# Altium integrated library TI Amplifiers and Linear Special Function Amplifier.IntLib: 708 symbols (part 28 of 47)
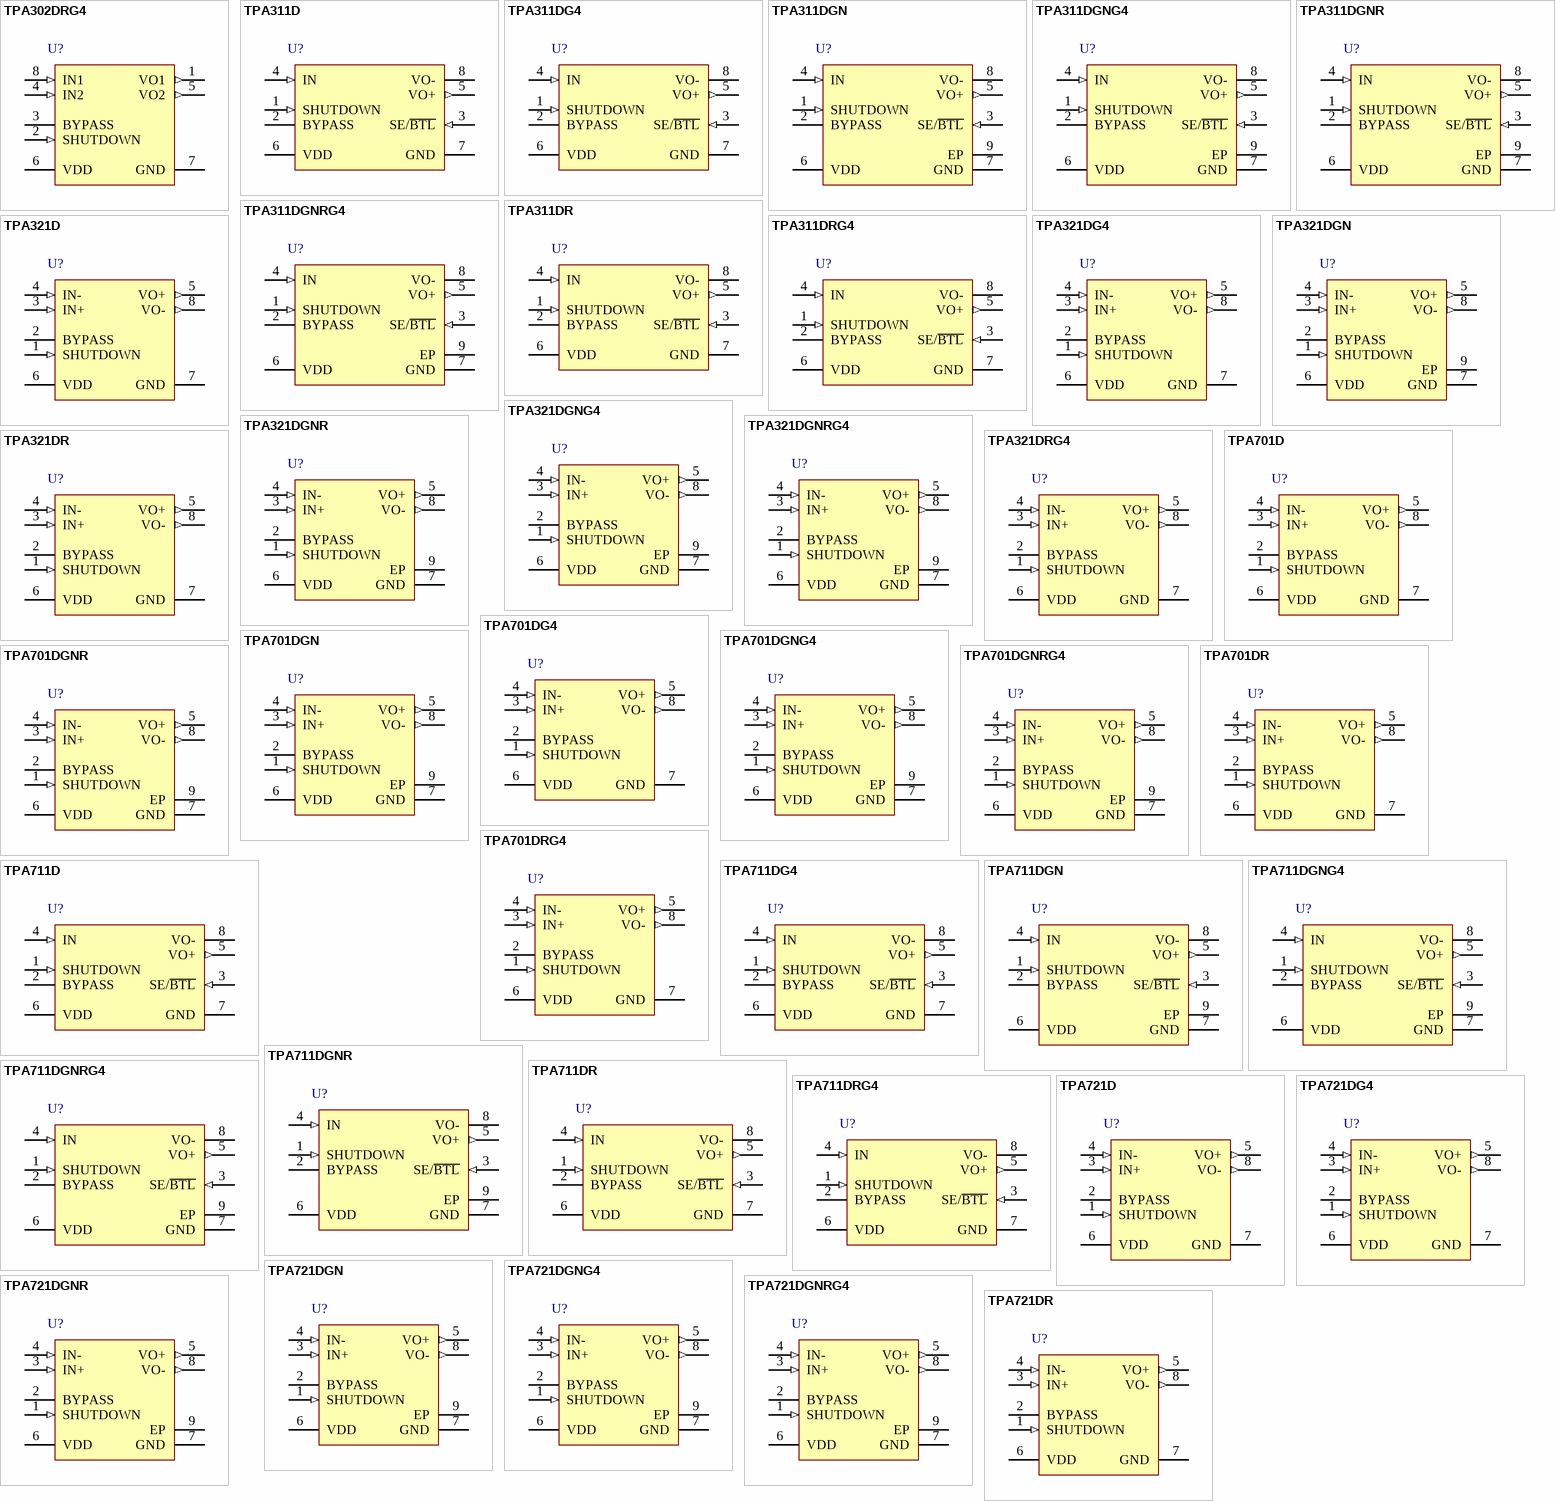
[diagram p66: symbols TPA302DRG4 to TPA721DR]

## TPA701DG4
designator U?
700-mW Mono, Class-AB Audio Amplifier, -40 to 85 degC, 8-pin SOIC (D8), Green (RoHS & no Sb/Br); Manufacturer: Texas Instruments; PartNumber: TPA701DG4; Output Power(W): 0.25; PSRR(dB): 85; SubFamily: Dynamic Speaker; Supply Max(Max)(Volt): 5.5; Supply Min(Min)(Volt): 2.5; DatasheetVersion: SLOS229D; PackageVersion: 4040047-3/M, 06/2011; PackageReference: D8; PackageDescription: 8-Pin Plastic Small Outline, Body 4.9 x 3.9 mm, Pitch 1.27 mm; Supplier 1: Digi-Key; Supplier Part Number 1: TPA701DG4-ND; Supplier 2: Mouser; Supplier Part Number 2: 595-TPA701DG4; Eco-Plan: Green (RoHS & no Sb/Br); Speaker Amp Type: Class-AB; Speaker Channels: Mono; Mounting Technology: Surface Mount; Code_JEDEC: MS-012; ComponentLink1Description: Manufacturer URL; ComponentLink1URL: http://www.ti.com/; ComponentLink2Description: Datasheet; ComponentLink2URL: http://www.ti.com/general/docs/lit/getliterature.tsp?genericPartNumber=TPA701&fileType=pdf; ComponentLink3Description: Package Specification; ComponentLink3URL: http://www.ti.com/litv/pdf/msoi002j
footprint TI-D8_N (SOIC, 8-Leads, Body 5x4mm, Pitch 1.27mm, IPC Medium Density)
footprint TI-D8_L (SOIC, 8-Leads, Body 5x4mm, Pitch 1.27mm, IPC High Density)
footprint TI-D8_M (SOIC, 8-Leads, Body 5x4mm, Pitch 1.27mm, IPC Low Density)
pins: 1 SHUTDOWN (in) "SHUTDOWN places the entire device in shutdown mode when held high.", 2 BYPASS "BYPASS is the tap to the voltage divider for internal mid-supply bias. This terminal should be connected to a 0.1-uF to 2.2-uF capacitor when used as an audio amplifier.", 3 IN+ (in) "IN+ is the noninverting input. IN+ is typically tied to the BYPASS terminal.", 4 IN- (in) "IN- is the inverting input. IN- is typically used as the audio input terminal.", 5 VO+ (out) "VO+ is the positive BTL output.", 6 VDD (power) "VDD is the supply voltage terminal.", 7 GND (power) "GND is the ground connection.", 8 VO- (out) "VO- is the negative BTL output."

## TPA701DGN
designator U?
700-mW Mono, Class-AB Audio Amplifier, -40 to 85 degC, 8-pin SOP (DGN8), Green (RoHS & no Sb/Br); Manufacturer: Texas Instruments; PartNumber: TPA701DGN; Output Power(W): 0.25; PSRR(dB): 85; SubFamily: Dynamic Speaker; Supply Max(Max)(Volt): 5.5; Supply Min(Min)(Volt): 2.5; DatasheetVersion: SLOS229D; PackageVersion: 4073271/F, 05/2011; PackageReference: DGN8-1760X1425TP; PackageDescription: 8-Pin Plastic Small Outline, Body 3 x 3 mm, Pitch 0.65 mm; Supplier 1: Digi-Key; Supplier Part Number 1: 296-7022-5-ND; Supplier 2: Newark; Supplier Part Number 2: 76C9855; Supplier 3: Mouser; Supplier Part Number 3: 595-TPA701DGN; Eco-Plan: Green (RoHS & no Sb/Br); Speaker Amp Type: Class-AB; Speaker Channels: Mono; Mounting Technology: Surface Mount; Code_JEDEC: MO-187; ComponentLink1Description: Manufacturer URL; ComponentLink1URL: http://www.ti.com/; ComponentLink2Description: Datasheet; ComponentLink2URL: http://www.ti.com/general/docs/lit/getliterature.tsp?genericPartNumber=TPA701&fileType=pdf; ComponentLink3Description: Package Specification; ComponentLink3URL: http://www.ti.com/litv/pdf/mpds046e
footprint TI-DGN8-1760X1425TP_N (SOP, 8-Leads, Body 3.1x3.1mm, Pitch 0.65mm, Thermal Pad 1.89x1.57mm, IPC Medium Density)
footprint TI-DGN8-1760X1425TP_L (SOP, 8-Leads, Body 3.1x3.1mm, Pitch 0.65mm, Thermal Pad 1.89x1.57mm, IPC High Density)
footprint TI-DGN8-1760X1425TP_M (SOP, 8-Leads, Body 3.1x3.1mm, Pitch 0.65mm, Thermal Pad 1.89x1.57mm, IPC Low Density)
pins: 1 SHUTDOWN (in) "SHUTDOWN places the entire device in shutdown mode when held high.", 2 BYPASS "BYPASS is the tap to the voltage divider for internal mid-supply bias.", 3 IN+ (in) "IN+ is the noninverting input. IN+ is typically tied to the BYPASS terminal.", 4 IN- (in) "IN- is the inverting input. IN- is typically used as the audio input terminal.", 5 VO+ (out) "VO+ is the positive BTL output.", 6 VDD (power) "VDD is the supply voltage terminal.", 7 GND (power) "GND is the ground connection.", 8 VO- (out) "VO- is the negative BTL output.", 9 EP

## TPA701DGNG4
designator U?
700-mW Mono, Class-AB Audio Amplifier, -40 to 85 degC, 8-pin SOP (DGN8), Green (RoHS & no Sb/Br); Manufacturer: Texas Instruments; PartNumber: TPA701DGNG4; Output Power(W): 0.25; PSRR(dB): 85; SubFamily: Dynamic Speaker; Supply Max(Max)(Volt): 5.5; Supply Min(Min)(Volt): 2.5; DatasheetVersion: SLOS229D; PackageVersion: 4073271/F, 05/2011; PackageReference: DGN8-1760X1425TP; PackageDescription: 8-Pin Plastic Small Outline, Body 3 x 3 mm, Pitch 0.65 mm; Supplier 1: Digi-Key; Supplier Part Number 1: TPA701DGNG4-ND; Supplier 2: Newark; Supplier Part Number 2: 54K1509; Supplier 3: Mouser; Supplier Part Number 3: 595-TPA701DGNG4; Eco-Plan: Green (RoHS & no Sb/Br); Speaker Amp Type: Class-AB; Speaker Channels: Mono; Mounting Technology: Surface Mount; Code_JEDEC: MO-187; ComponentLink1Description: Manufacturer URL; ComponentLink1URL: http://www.ti.com/; ComponentLink2Description: Datasheet; ComponentLink2URL: http://www.ti.com/general/docs/lit/getliterature.tsp?genericPartNumber=TPA701&fileType=pdf; ComponentLink3Description: Package Specification; ComponentLink3URL: http://www.ti.com/litv/pdf/mpds046e
footprint TI-DGN8-1760X1425TP_N (SOP, 8-Leads, Body 3.1x3.1mm, Pitch 0.65mm, Thermal Pad 1.89x1.57mm, IPC Medium Density)
footprint TI-DGN8-1760X1425TP_L (SOP, 8-Leads, Body 3.1x3.1mm, Pitch 0.65mm, Thermal Pad 1.89x1.57mm, IPC High Density)
footprint TI-DGN8-1760X1425TP_M (SOP, 8-Leads, Body 3.1x3.1mm, Pitch 0.65mm, Thermal Pad 1.89x1.57mm, IPC Low Density)
pins: 1 SHUTDOWN (in) "SHUTDOWN places the entire device in shutdown mode when held high.", 2 BYPASS "BYPASS is the tap to the voltage divider for internal mid-supply bias.", 3 IN+ (in) "IN+ is the noninverting input. IN+ is typically tied to the BYPASS terminal.", 4 IN- (in) "IN- is the inverting input. IN- is typically used as the audio input terminal.", 5 VO+ (out) "VO+ is the positive BTL output.", 6 VDD (power) "VDD is the supply voltage terminal.", 7 GND (power) "GND is the ground connection.", 8 VO- (out) "VO- is the negative BTL output.", 9 EP

## TPA701DGNR
designator U?
700-mW Mono, Class-AB Audio Amplifier, -40 to 85 degC, 8-pin SOP (DGN8), Green (RoHS & no Sb/Br); Manufacturer: Texas Instruments; PartNumber: TPA701DGNR; Output Power(W): 0.25; PSRR(dB): 85; SubFamily: Dynamic Speaker; Supply Max(Max)(Volt): 5.5; Supply Min(Min)(Volt): 2.5; DatasheetVersion: SLOS229D; PackageVersion: 4073271/F, 05/2011; PackageReference: DGN8-1760X1425TP; PackageDescription: 8-Pin Plastic Small Outline, Body 3 x 3 mm, Pitch 0.65 mm; Supplier 1: Digi-Key; Supplier Part Number 1: 296-7022-2-ND; Supplier 2: Digi-Key; Supplier Part Number 2: 296-7022-1-ND; Supplier 3: Digi-Key; Supplier Part Number 3: 296-7022-6-ND; Supplier 4: Newark; Supplier Part Number 4: 76C9856; Supplier 5: Mouser; Supplier Part Number 5: 595-TPA701DGNR; Eco-Plan: Green (RoHS & no Sb/Br); Speaker Amp Type: Class-AB; Speaker Channels: Mono; Mounting Technology: Surface Mount; Code_JEDEC: MO-187; ComponentLink1Description: Manufacturer URL; ComponentLink1URL: http://www.ti.com/; ComponentLink2Description: Datasheet; ComponentLink2URL: http://www.ti.com/general/docs/lit/getliterature.tsp?genericPartNumber=TPA701&fileType=pdf; ComponentLink3Description: Package Specification; ComponentLink3URL: http://www.ti.com/litv/pdf/mpds046e
footprint TI-DGN8-1760X1425TP_N (SOP, 8-Leads, Body 3.1x3.1mm, Pitch 0.65mm, Thermal Pad 1.89x1.57mm, IPC Medium Density)
footprint TI-DGN8-1760X1425TP_L (SOP, 8-Leads, Body 3.1x3.1mm, Pitch 0.65mm, Thermal Pad 1.89x1.57mm, IPC High Density)
footprint TI-DGN8-1760X1425TP_M (SOP, 8-Leads, Body 3.1x3.1mm, Pitch 0.65mm, Thermal Pad 1.89x1.57mm, IPC Low Density)
pins: 1 SHUTDOWN (in) "SHUTDOWN places the entire device in shutdown mode when held high.", 2 BYPASS "BYPASS is the tap to the voltage divider for internal mid-supply bias.", 3 IN+ (in) "IN+ is the noninverting input. IN+ is typically tied to the BYPASS terminal.", 4 IN- (in) "IN- is the inverting input. IN- is typically used as the audio input terminal.", 5 VO+ (out) "VO+ is the positive BTL output.", 6 VDD (power) "VDD is the supply voltage terminal.", 7 GND (power) "GND is the ground connection.", 8 VO- (out) "VO- is the negative BTL output.", 9 EP

## TPA701DGNRG4
designator U?
700-mW Mono, Class-AB Audio Amplifier, -40 to 85 degC, 8-pin SOP (DGN8), Green (RoHS & no Sb/Br); Manufacturer: Texas Instruments; PartNumber: TPA701DGNRG4; Output Power(W): 0.25; PSRR(dB): 85; SubFamily: Dynamic Speaker; Supply Max(Max)(Volt): 5.5; Supply Min(Min)(Volt): 2.5; DatasheetVersion: SLOS229D; PackageVersion: 4073271/F, 05/2011; PackageReference: DGN8-1760X1425TP; PackageDescription: 8-Pin Plastic Small Outline, Body 3 x 3 mm, Pitch 0.65 mm; Supplier 1: Digi-Key; Supplier Part Number 1: TPA701DGNRG4-ND; Supplier 2: Newark; Supplier Part Number 2: 58K6881; Supplier 3: Mouser; Supplier Part Number 3: 595-TPA701DGNRG4; Eco-Plan: Green (RoHS & no Sb/Br); Speaker Amp Type: Class-AB; Speaker Channels: Mono; Mounting Technology: Surface Mount; Code_JEDEC: MO-187; ComponentLink1Description: Manufacturer URL; ComponentLink1URL: http://www.ti.com/; ComponentLink2Description: Datasheet; ComponentLink2URL: http://www.ti.com/general/docs/lit/getliterature.tsp?genericPartNumber=TPA701&fileType=pdf; ComponentLink3Description: Package Specification; ComponentLink3URL: http://www.ti.com/litv/pdf/mpds046e
footprint TI-DGN8-1760X1425TP_N (SOP, 8-Leads, Body 3.1x3.1mm, Pitch 0.65mm, Thermal Pad 1.89x1.57mm, IPC Medium Density)
footprint TI-DGN8-1760X1425TP_L (SOP, 8-Leads, Body 3.1x3.1mm, Pitch 0.65mm, Thermal Pad 1.89x1.57mm, IPC High Density)
footprint TI-DGN8-1760X1425TP_M (SOP, 8-Leads, Body 3.1x3.1mm, Pitch 0.65mm, Thermal Pad 1.89x1.57mm, IPC Low Density)
pins: 1 SHUTDOWN (in) "SHUTDOWN places the entire device in shutdown mode when held high.", 2 BYPASS "BYPASS is the tap to the voltage divider for internal mid-supply bias.", 3 IN+ (in) "IN+ is the noninverting input. IN+ is typically tied to the BYPASS terminal.", 4 IN- (in) "IN- is the inverting input. IN- is typically used as the audio input terminal.", 5 VO+ (out) "VO+ is the positive BTL output.", 6 VDD (power) "VDD is the supply voltage terminal.", 7 GND (power) "GND is the ground connection.", 8 VO- (out) "VO- is the negative BTL output.", 9 EP

## TPA701DR
designator U?
700-mW Mono, Class-AB Audio Amplifier, -40 to 85 degC, 8-pin SOIC (D8), Green (RoHS & no Sb/Br); Manufacturer: Texas Instruments; PartNumber: TPA701DR; Output Power(W): 0.25; PSRR(dB): 85; SubFamily: Dynamic Speaker; Supply Max(Max)(Volt): 5.5; Supply Min(Min)(Volt): 2.5; DatasheetVersion: SLOS229D; PackageVersion: 4040047-3/M, 06/2011; PackageReference: D8; PackageDescription: 8-Pin Plastic Small Outline, Body 4.9 x 3.9 mm, Pitch 1.27 mm; Supplier 1: Digi-Key; Supplier Part Number 1: 296-1949-2-ND; Supplier 2: Digi-Key; Supplier Part Number 2: 296-1949-1-ND; Supplier 3: Digi-Key; Supplier Part Number 3: 296-1949-6-ND; Supplier 4: Newark; Supplier Part Number 4: 76C9857; Supplier 5: Mouser; Supplier Part Number 5: 595-TPA701DR; Eco-Plan: Green (RoHS & no Sb/Br); Speaker Amp Type: Class-AB; Speaker Channels: Mono; Mounting Technology: Surface Mount; Code_JEDEC: MS-012; ComponentLink1Description: Manufacturer URL; ComponentLink1URL: http://www.ti.com/; ComponentLink2Description: Datasheet; ComponentLink2URL: http://www.ti.com/general/docs/lit/getliterature.tsp?genericPartNumber=TPA701&fileType=pdf; ComponentLink3Description: Package Specification; ComponentLink3URL: http://www.ti.com/litv/pdf/msoi002j
footprint TI-D8_N (SOIC, 8-Leads, Body 5x4mm, Pitch 1.27mm, IPC Medium Density)
footprint TI-D8_L (SOIC, 8-Leads, Body 5x4mm, Pitch 1.27mm, IPC High Density)
footprint TI-D8_M (SOIC, 8-Leads, Body 5x4mm, Pitch 1.27mm, IPC Low Density)
pins: 1 SHUTDOWN (in) "SHUTDOWN places the entire device in shutdown mode when held high.", 2 BYPASS "BYPASS is the tap to the voltage divider for internal mid-supply bias. This terminal should be connected to a 0.1-uF to 2.2-uF capacitor when used as an audio amplifier.", 3 IN+ (in) "IN+ is the noninverting input. IN+ is typically tied to the BYPASS terminal.", 4 IN- (in) "IN- is the inverting input. IN- is typically used as the audio input terminal.", 5 VO+ (out) "VO+ is the positive BTL output.", 6 VDD (power) "VDD is the supply voltage terminal.", 7 GND (power) "GND is the ground connection.", 8 VO- (out) "VO- is the negative BTL output."

## TPA701DRG4
designator U?
700-mW Mono, Class-AB Audio Amplifier, -40 to 85 degC, 8-pin SOIC (D8), Green (RoHS & no Sb/Br); Manufacturer: Texas Instruments; PartNumber: TPA701DRG4; Output Power(W): 0.25; PSRR(dB): 85; SubFamily: Dynamic Speaker; Supply Max(Max)(Volt): 5.5; Supply Min(Min)(Volt): 2.5; DatasheetVersion: SLOS229D; PackageVersion: 4040047-3/M, 06/2011; PackageReference: D8; PackageDescription: 8-Pin Plastic Small Outline, Body 4.9 x 3.9 mm, Pitch 1.27 mm; Supplier 1: Digi-Key; Supplier Part Number 1: TPA701DRG4-ND; Supplier 2: Mouser; Supplier Part Number 2: 595-TPA701DRG4; Eco-Plan: Green (RoHS & no Sb/Br); Speaker Amp Type: Class-AB; Speaker Channels: Mono; Mounting Technology: Surface Mount; Code_JEDEC: MS-012; ComponentLink1Description: Manufacturer URL; ComponentLink1URL: http://www.ti.com/; ComponentLink2Description: Datasheet; ComponentLink2URL: http://www.ti.com/general/docs/lit/getliterature.tsp?genericPartNumber=TPA701&fileType=pdf; ComponentLink3Description: Package Specification; ComponentLink3URL: http://www.ti.com/litv/pdf/msoi002j
footprint TI-D8_N (SOIC, 8-Leads, Body 5x4mm, Pitch 1.27mm, IPC Medium Density)
footprint TI-D8_L (SOIC, 8-Leads, Body 5x4mm, Pitch 1.27mm, IPC High Density)
footprint TI-D8_M (SOIC, 8-Leads, Body 5x4mm, Pitch 1.27mm, IPC Low Density)
pins: 1 SHUTDOWN (in) "SHUTDOWN places the entire device in shutdown mode when held high.", 2 BYPASS "BYPASS is the tap to the voltage divider for internal mid-supply bias. This terminal should be connected to a 0.1-uF to 2.2-uF capacitor when used as an audio amplifier.", 3 IN+ (in) "IN+ is the noninverting input. IN+ is typically tied to the BYPASS terminal.", 4 IN- (in) "IN- is the inverting input. IN- is typically used as the audio input terminal.", 5 VO+ (out) "VO+ is the positive BTL output.", 6 VDD (power) "VDD is the supply voltage terminal.", 7 GND (power) "GND is the ground connection.", 8 VO- (out) "VO- is the negative BTL output."

## TPA711D
designator U?
700-mW Mono, Class-AB Audio Amplifier with Mono Headphone Drive, -40 to 85 degC, 8-pin SOIC (D8), Green (RoHS & no Sb/Br); Manufacturer: Texas Instruments; PartNumber: TPA711D; Output Power(W): 0.25; PSRR(dB): 85; SubFamily: Dynamic Speaker; Supply Max(Max)(Volt): 5.5; Supply Min(Min)(Volt): 2.5; DatasheetVersion: SLOS230D; PackageVersion: 4040047-3/M, 06/2011; PackageReference: D8; PackageDescription: 8-Pin Plastic Small Outline, Body 4.9 x 3.9 mm, Pitch 1.27 mm; Supplier 1: Digi-Key; Supplier Part Number 1: 296-1950-5-ND; Supplier 2: Mouser; Supplier Part Number 2: 595-TPA711D; Eco-Plan: Green (RoHS & no Sb/Br); Headphone Channels: Mono; Speaker Amp Type: Class-AB; Speaker Channels: Mono; Mounting Technology: Surface Mount; Code_JEDEC: MS-012; ComponentLink1Description: Manufacturer URL; ComponentLink1URL: http://www.ti.com/; ComponentLink2Description: Datasheet; ComponentLink2URL: http://www.ti.com/general/docs/lit/getliterature.tsp?genericPartNumber=TPA711&fileType=pdf; ComponentLink3Description: Package Specification; ComponentLink3URL: http://www.ti.com/litv/pdf/msoi002j
footprint TI-D8_N (SOIC, 8-Leads, Body 5x4mm, Pitch 1.27mm, IPC Medium Density)
footprint TI-D8_L (SOIC, 8-Leads, Body 5x4mm, Pitch 1.27mm, IPC High Density)
footprint TI-D8_M (SOIC, 8-Leads, Body 5x4mm, Pitch 1.27mm, IPC Low Density)
pins: 1 SHUTDOWN (in) "SHUTDOWN places the entire device in shutdown mode when held high.", 2 BYPASS "BYPASS is the tap to the voltage divider for internal mid-supply bias. This terminal should be connected to a capacitor when used as an audio amplifier.", 3 SE/~{BTL} (in) "When SE/B\T\L\ is held low, the TPAX11 is in BTL mode. When SE/B\T\L\ is held high, the TPAX11 is in SE mode.", 4 IN (in) "IN is the audio input terminal.", 5 VO+ (out) "VO+ is the positive output for BTL and SE modes.", 6 VDD (power) "VDD is the supply voltage terminal.", 7 GND (power) "GND is the ground connection.", 8 VO- (hiz) "VO- is the negative output in BTL mode and a high-impedance output in SE mode."

## TPA711DG4
designator U?
700-mW Mono, Class-AB Audio Amplifier with Mono Headphone Drive, -40 to 85 degC, 8-pin SOIC (D8), Green (RoHS & no Sb/Br); Manufacturer: Texas Instruments; PartNumber: TPA711DG4; Output Power(W): 0.25; PSRR(dB): 85; SubFamily: Dynamic Speaker; Supply Max(Max)(Volt): 5.5; Supply Min(Min)(Volt): 2.5; DatasheetVersion: SLOS230D; PackageVersion: 4040047-3/M, 06/2011; PackageReference: D8; PackageDescription: 8-Pin Plastic Small Outline, Body 4.9 x 3.9 mm, Pitch 1.27 mm; Supplier 1: Digi-Key; Supplier Part Number 1: TPA711DG4-ND; Supplier 2: Mouser; Supplier Part Number 2: 595-TPA711DG4; Eco-Plan: Green (RoHS & no Sb/Br); Headphone Channels: Mono; Speaker Amp Type: Class-AB; Speaker Channels: Mono; Mounting Technology: Surface Mount; Code_JEDEC: MS-012; ComponentLink1Description: Manufacturer URL; ComponentLink1URL: http://www.ti.com/; ComponentLink2Description: Datasheet; ComponentLink2URL: http://www.ti.com/general/docs/lit/getliterature.tsp?genericPartNumber=TPA711&fileType=pdf; ComponentLink3Description: Package Specification; ComponentLink3URL: http://www.ti.com/litv/pdf/msoi002j
footprint TI-D8_N (SOIC, 8-Leads, Body 5x4mm, Pitch 1.27mm, IPC Medium Density)
footprint TI-D8_L (SOIC, 8-Leads, Body 5x4mm, Pitch 1.27mm, IPC High Density)
footprint TI-D8_M (SOIC, 8-Leads, Body 5x4mm, Pitch 1.27mm, IPC Low Density)
pins: 1 SHUTDOWN (in) "SHUTDOWN places the entire device in shutdown mode when held high.", 2 BYPASS "BYPASS is the tap to the voltage divider for internal mid-supply bias. This terminal should be connected to a capacitor when used as an audio amplifier.", 3 SE/~{BTL} (in) "When SE/B\T\L\ is held low, the TPAX11 is in BTL mode. When SE/B\T\L\ is held high, the TPAX11 is in SE mode.", 4 IN (in) "IN is the audio input terminal.", 5 VO+ (out) "VO+ is the positive output for BTL and SE modes.", 6 VDD (power) "VDD is the supply voltage terminal.", 7 GND (power) "GND is the ground connection.", 8 VO- (hiz) "VO- is the negative output in BTL mode and a high-impedance output in SE mode."

## TPA711DGN
designator U?
700-mW Mono, Class-AB Audio Amplifier with Mono Headphone Drive, -40 to 85 degC, 8-pin SOP (DGN8), Green (RoHS & no Sb/Br); Manufacturer: Texas Instruments; PartNumber: TPA711DGN; Output Power(W): 0.25; PSRR(dB): 85; SubFamily: Dynamic Speaker; Supply Max(Max)(Volt): 5.5; Supply Min(Min)(Volt): 2.5; DatasheetVersion: SLOS230D; PackageVersion: 4073271/F, 05/2011; PackageReference: DGN8-1760X1425TP; PackageDescription: 8-Pin Plastic Small Outline, Body 3 x 3 mm, Pitch 0.65 mm; Supplier 1: Digi-Key; Supplier Part Number 1: 296-26890-5-ND; Supplier 2: Mouser; Supplier Part Number 2: 595-TPA711DGN; Eco-Plan: Green (RoHS & no Sb/Br); Headphone Channels: Mono; Speaker Amp Type: Class-AB; Speaker Channels: Mono; Mounting Technology: Surface Mount; Code_JEDEC: MO-187; ComponentLink1Description: Manufacturer URL; ComponentLink1URL: http://www.ti.com/; ComponentLink2Description: Datasheet; ComponentLink2URL: http://www.ti.com/general/docs/lit/getliterature.tsp?genericPartNumber=TPA711&fileType=pdf; ComponentLink3Description: Package Specification; ComponentLink3URL: http://www.ti.com/litv/pdf/mpds046e
footprint TI-DGN8-1760X1425TP_N (SOP, 8-Leads, Body 3.1x3.1mm, Pitch 0.65mm, Thermal Pad 1.89x1.57mm, IPC Medium Density)
footprint TI-DGN8-1760X1425TP_L (SOP, 8-Leads, Body 3.1x3.1mm, Pitch 0.65mm, Thermal Pad 1.89x1.57mm, IPC High Density)
footprint TI-DGN8-1760X1425TP_M (SOP, 8-Leads, Body 3.1x3.1mm, Pitch 0.65mm, Thermal Pad 1.89x1.57mm, IPC Low Density)
pins: 1 SHUTDOWN (in) "SHUTDOWN places the entire device in shutdown mode when held high", 2 BYPASS "BYPASS is the tap to the voltage divider for internal mid-supply bias.", 3 SE/~{BTL} (in) "When SE/B\T\L\ is held low, the TPA311 is in BTL mode. When SE/B\T\L\ is held high", 4 IN (in) "IN is the audio input terminal.", 5 VO+ (out) "VO+ is the positive output for BTL and SE modes.", 6 VDD (power) "VDD is the supply voltage terminal.", 7 GND (power) "GND is the ground connection.", 8 VO- (hiz) "VO- is the negative output in BTL mode and a high-impedance output in SE mode.", 9 EP

## TPA711DGNG4
designator U?
700-mW Mono, Class-AB Audio Amplifier with Mono Headphone Drive, -40 to 85 degC, 8-pin SOP (DGN8), Green (RoHS & no Sb/Br); Manufacturer: Texas Instruments; PartNumber: TPA711DGNG4; Output Power(W): 0.25; PSRR(dB): 85; SubFamily: Dynamic Speaker; Supply Max(Max)(Volt): 5.5; Supply Min(Min)(Volt): 2.5; DatasheetVersion: SLOS230D; PackageVersion: 4073271/F, 05/2011; PackageReference: DGN8-1760X1425TP; PackageDescription: 8-Pin Plastic Small Outline, Body 3 x 3 mm, Pitch 0.65 mm; Supplier 1: Digi-Key; Supplier Part Number 1: TPA711DGNG4-ND; Supplier 2: Mouser; Supplier Part Number 2: 595-TPA711DGNG4; Eco-Plan: Green (RoHS & no Sb/Br); Headphone Channels: Mono; Speaker Amp Type: Class-AB; Speaker Channels: Mono; Mounting Technology: Surface Mount; Code_JEDEC: MO-187; ComponentLink1Description: Manufacturer URL; ComponentLink1URL: http://www.ti.com/; ComponentLink2Description: Datasheet; ComponentLink2URL: http://www.ti.com/general/docs/lit/getliterature.tsp?genericPartNumber=TPA711&fileType=pdf; ComponentLink3Description: Package Specification; ComponentLink3URL: http://www.ti.com/litv/pdf/mpds046e
footprint TI-DGN8-1760X1425TP_N (SOP, 8-Leads, Body 3.1x3.1mm, Pitch 0.65mm, Thermal Pad 1.89x1.57mm, IPC Medium Density)
footprint TI-DGN8-1760X1425TP_L (SOP, 8-Leads, Body 3.1x3.1mm, Pitch 0.65mm, Thermal Pad 1.89x1.57mm, IPC High Density)
footprint TI-DGN8-1760X1425TP_M (SOP, 8-Leads, Body 3.1x3.1mm, Pitch 0.65mm, Thermal Pad 1.89x1.57mm, IPC Low Density)
pins: 1 SHUTDOWN (in) "SHUTDOWN places the entire device in shutdown mode when held high", 2 BYPASS "BYPASS is the tap to the voltage divider for internal mid-supply bias.", 3 SE/~{BTL} (in) "When SE/B\T\L\ is held low, the TPA311 is in BTL mode. When SE/B\T\L\ is held high", 4 IN (in) "IN is the audio input terminal.", 5 VO+ (out) "VO+ is the positive output for BTL and SE modes.", 6 VDD (power) "VDD is the supply voltage terminal.", 7 GND (power) "GND is the ground connection.", 8 VO- (hiz) "VO- is the negative output in BTL mode and a high-impedance output in SE mode.", 9 EP

## TPA711DGNR
designator U?
700-mW Mono, Class-AB Audio Amplifier with Mono Headphone Drive, -40 to 85 degC, 8-pin SOP (DGN8), Green (RoHS & no Sb/Br); Manufacturer: Texas Instruments; PartNumber: TPA711DGNR; Output Power(W): 0.25; PSRR(dB): 85; SubFamily: Dynamic Speaker; Supply Max(Max)(Volt): 5.5; Supply Min(Min)(Volt): 2.5; DatasheetVersion: SLOS230D; PackageVersion: 4073271/F, 05/2011; PackageReference: DGN8-1760X1425TP; PackageDescription: 8-Pin Plastic Small Outline, Body 3 x 3 mm, Pitch 0.65 mm; Supplier 1: Digi-Key; Supplier Part Number 1: 296-7023-2-ND; Supplier 2: Digi-Key; Supplier Part Number 2: 296-7023-1-ND; Supplier 3: Digi-Key; Supplier Part Number 3: 296-7023-6-ND; Supplier 4: Newark; Supplier Part Number 4: 76C9861; Supplier 5: Mouser; Supplier Part Number 5: 595-TPA711DGNR; Eco-Plan: Green (RoHS & no Sb/Br); Headphone Channels: Mono; Speaker Amp Type: Class-AB; Speaker Channels: Mono; Mounting Technology: Surface Mount; Code_JEDEC: MO-187; ComponentLink1Description: Manufacturer URL; ComponentLink1URL: http://www.ti.com/; ComponentLink2Description: Datasheet; ComponentLink2URL: http://www.ti.com/general/docs/lit/getliterature.tsp?genericPartNumber=TPA711&fileType=pdf; ComponentLink3Description: Package Specification; ComponentLink3URL: http://www.ti.com/litv/pdf/mpds046e
footprint TI-DGN8-1760X1425TP_N (SOP, 8-Leads, Body 3.1x3.1mm, Pitch 0.65mm, Thermal Pad 1.89x1.57mm, IPC Medium Density)
footprint TI-DGN8-1760X1425TP_L (SOP, 8-Leads, Body 3.1x3.1mm, Pitch 0.65mm, Thermal Pad 1.89x1.57mm, IPC High Density)
footprint TI-DGN8-1760X1425TP_M (SOP, 8-Leads, Body 3.1x3.1mm, Pitch 0.65mm, Thermal Pad 1.89x1.57mm, IPC Low Density)
pins: 1 SHUTDOWN (in) "SHUTDOWN places the entire device in shutdown mode when held high", 2 BYPASS "BYPASS is the tap to the voltage divider for internal mid-supply bias.", 3 SE/~{BTL} (in) "When SE/B\T\L\ is held low, the TPA311 is in BTL mode. When SE/B\T\L\ is held high", 4 IN (in) "IN is the audio input terminal.", 5 VO+ (out) "VO+ is the positive output for BTL and SE modes.", 6 VDD (power) "VDD is the supply voltage terminal.", 7 GND (power) "GND is the ground connection.", 8 VO- (hiz) "VO- is the negative output in BTL mode and a high-impedance output in SE mode.", 9 EP

## TPA711DGNRG4
designator U?
700-mW Mono, Class-AB Audio Amplifier with Mono Headphone Drive, -40 to 85 degC, 8-pin SOP (DGN8), Green (RoHS & no Sb/Br); Manufacturer: Texas Instruments; PartNumber: TPA711DGNRG4; Output Power(W): 0.25; PSRR(dB): 85; SubFamily: Dynamic Speaker; Supply Max(Max)(Volt): 5.5; Supply Min(Min)(Volt): 2.5; DatasheetVersion: SLOS230D; PackageVersion: 4073271/F, 05/2011; PackageReference: DGN8-1760X1425TP; PackageDescription: 8-Pin Plastic Small Outline, Body 3 x 3 mm, Pitch 0.65 mm; Supplier 1: Digi-Key; Supplier Part Number 1: TPA711DGNRG4-ND; Supplier 2: Mouser; Supplier Part Number 2: 595-TPA711DGNRG4; Eco-Plan: Green (RoHS & no Sb/Br); Headphone Channels: Mono; Speaker Amp Type: Class-AB; Speaker Channels: Mono; Mounting Technology: Surface Mount; Code_JEDEC: MO-187; ComponentLink1Description: Manufacturer URL; ComponentLink1URL: http://www.ti.com/; ComponentLink2Description: Datasheet; ComponentLink2URL: http://www.ti.com/general/docs/lit/getliterature.tsp?genericPartNumber=TPA711&fileType=pdf; ComponentLink3Description: Package Specification; ComponentLink3URL: http://www.ti.com/litv/pdf/mpds046e
footprint TI-DGN8-1760X1425TP_N (SOP, 8-Leads, Body 3.1x3.1mm, Pitch 0.65mm, Thermal Pad 1.89x1.57mm, IPC Medium Density)
footprint TI-DGN8-1760X1425TP_L (SOP, 8-Leads, Body 3.1x3.1mm, Pitch 0.65mm, Thermal Pad 1.89x1.57mm, IPC High Density)
footprint TI-DGN8-1760X1425TP_M (SOP, 8-Leads, Body 3.1x3.1mm, Pitch 0.65mm, Thermal Pad 1.89x1.57mm, IPC Low Density)
pins: 1 SHUTDOWN (in) "SHUTDOWN places the entire device in shutdown mode when held high", 2 BYPASS "BYPASS is the tap to the voltage divider for internal mid-supply bias.", 3 SE/~{BTL} (in) "When SE/B\T\L\ is held low, the TPA311 is in BTL mode. When SE/B\T\L\ is held high", 4 IN (in) "IN is the audio input terminal.", 5 VO+ (out) "VO+ is the positive output for BTL and SE modes.", 6 VDD (power) "VDD is the supply voltage terminal.", 7 GND (power) "GND is the ground connection.", 8 VO- (hiz) "VO- is the negative output in BTL mode and a high-impedance output in SE mode.", 9 EP

## TPA711DR
designator U?
700-mW Mono, Class-AB Audio Amplifier with Mono Headphone Drive, -40 to 85 degC, 8-pin SOIC (D8), Green (RoHS & no Sb/Br); Manufacturer: Texas Instruments; PartNumber: TPA711DR; Output Power(W): 0.25; PSRR(dB): 85; SubFamily: Dynamic Speaker; Supply Max(Max)(Volt): 5.5; Supply Min(Min)(Volt): 2.5; DatasheetVersion: SLOS230D; PackageVersion: 4040047-3/M, 06/2011; PackageReference: D8; PackageDescription: 8-Pin Plastic Small Outline, Body 4.9 x 3.9 mm, Pitch 1.27 mm; Supplier 1: Digi-Key; Supplier Part Number 1: 296-1950-2-ND; Supplier 2: Digi-Key; Supplier Part Number 2: 296-1950-1-ND; Supplier 3: Digi-Key; Supplier Part Number 3: 296-1950-6-ND; Supplier 4: Newark; Supplier Part Number 4: 76C9862; Supplier 5: Mouser; Supplier Part Number 5: 595-TPA711DR; Eco-Plan: Green (RoHS & no Sb/Br); Headphone Channels: Mono; Speaker Amp Type: Class-AB; Speaker Channels: Mono; Mounting Technology: Surface Mount; Code_JEDEC: MS-012; ComponentLink1Description: Manufacturer URL; ComponentLink1URL: http://www.ti.com/; ComponentLink2Description: Datasheet; ComponentLink2URL: http://www.ti.com/general/docs/lit/getliterature.tsp?genericPartNumber=TPA711&fileType=pdf; ComponentLink3Description: Package Specification; ComponentLink3URL: http://www.ti.com/litv/pdf/msoi002j
footprint TI-D8_N (SOIC, 8-Leads, Body 5x4mm, Pitch 1.27mm, IPC Medium Density)
footprint TI-D8_L (SOIC, 8-Leads, Body 5x4mm, Pitch 1.27mm, IPC High Density)
footprint TI-D8_M (SOIC, 8-Leads, Body 5x4mm, Pitch 1.27mm, IPC Low Density)
pins: 1 SHUTDOWN (in) "SHUTDOWN places the entire device in shutdown mode when held high.", 2 BYPASS "BYPASS is the tap to the voltage divider for internal mid-supply bias. This terminal should be connected to a capacitor when used as an audio amplifier.", 3 SE/~{BTL} (in) "When SE/B\T\L\ is held low, the TPAX11 is in BTL mode. When SE/B\T\L\ is held high, the TPAX11 is in SE mode.", 4 IN (in) "IN is the audio input terminal.", 5 VO+ (out) "VO+ is the positive output for BTL and SE modes.", 6 VDD (power) "VDD is the supply voltage terminal.", 7 GND (power) "GND is the ground connection.", 8 VO- (hiz) "VO- is the negative output in BTL mode and a high-impedance output in SE mode."

## TPA711DRG4
designator U?
700-mW Mono, Class-AB Audio Amplifier with Mono Headphone Drive, -40 to 85 degC, 8-pin SOIC (D8), Green (RoHS & no Sb/Br); Manufacturer: Texas Instruments; PartNumber: TPA711DRG4; Output Power(W): 0.25; PSRR(dB): 85; SubFamily: Dynamic Speaker; Supply Max(Max)(Volt): 5.5; Supply Min(Min)(Volt): 2.5; DatasheetVersion: SLOS230D; PackageVersion: 4040047-3/M, 06/2011; PackageReference: D8; PackageDescription: 8-Pin Plastic Small Outline, Body 4.9 x 3.9 mm, Pitch 1.27 mm; Supplier 1: Digi-Key; Supplier Part Number 1: TPA711DRG4-ND; Supplier 2: Mouser; Supplier Part Number 2: 595-TPA711DRG4; Eco-Plan: Green (RoHS & no Sb/Br); Headphone Channels: Mono; Speaker Amp Type: Class-AB; Speaker Channels: Mono; Mounting Technology: Surface Mount; Code_JEDEC: MS-012; ComponentLink1Description: Manufacturer URL; ComponentLink1URL: http://www.ti.com/; ComponentLink2Description: Datasheet; ComponentLink2URL: http://www.ti.com/general/docs/lit/getliterature.tsp?genericPartNumber=TPA711&fileType=pdf; ComponentLink3Description: Package Specification; ComponentLink3URL: http://www.ti.com/litv/pdf/msoi002j
footprint TI-D8_N (SOIC, 8-Leads, Body 5x4mm, Pitch 1.27mm, IPC Medium Density)
footprint TI-D8_L (SOIC, 8-Leads, Body 5x4mm, Pitch 1.27mm, IPC High Density)
footprint TI-D8_M (SOIC, 8-Leads, Body 5x4mm, Pitch 1.27mm, IPC Low Density)
pins: 1 SHUTDOWN (in) "SHUTDOWN places the entire device in shutdown mode when held high.", 2 BYPASS "BYPASS is the tap to the voltage divider for internal mid-supply bias. This terminal should be connected to a capacitor when used as an audio amplifier.", 3 SE/~{BTL} (in) "When SE/B\T\L\ is held low, the TPAX11 is in BTL mode. When SE/B\T\L\ is held high, the TPAX11 is in SE mode.", 4 IN (in) "IN is the audio input terminal.", 5 VO+ (out) "VO+ is the positive output for BTL and SE modes.", 6 VDD (power) "VDD is the supply voltage terminal.", 7 GND (power) "GND is the ground connection.", 8 VO- (hiz) "VO- is the negative output in BTL mode and a high-impedance output in SE mode."

## TPA721D
designator U?
700-mW Mono, Class-AB Audio Amplifier with Active High Shutdown, -40 to 85 degC, 8-pin SOIC (D8), Green (RoHS & no Sb/Br); Manufacturer: Texas Instruments; PartNumber: TPA721D; Output Power(W): 0.25; PSRR(dB): 85; SubFamily: Dynamic Speaker; Supply Max(Max)(Volt): 5.5; Supply Min(Min)(Volt): 2.5; DatasheetVersion: SLOS231E; PackageVersion: 4040047-3/M, 06/2011; PackageReference: D8; PackageDescription: 8-Pin Plastic Small Outline, Body 4.9 x 3.9 mm, Pitch 1.27 mm; Supplier 1: Digi-Key; Supplier Part Number 1: 296-1951-5-ND; Supplier 2: Farnell; Supplier Part Number 2: 1412044; Supplier 3: Newark; Supplier Part Number 3: 76C9863; Supplier 4: Mouser; Supplier Part Number 4: 595-TPA721D; Eco-Plan: Green (RoHS & no Sb/Br); Speaker Amp Type: Class-AB; Speaker Channels: Mono; Mounting Technology: Surface Mount; Code_JEDEC: MS-012; ComponentLink1Description: Manufacturer URL; ComponentLink1URL: http://www.ti.com/; ComponentLink2Description: Datasheet; ComponentLink2URL: http://www.ti.com/general/docs/lit/getliterature.tsp?genericPartNumber=TPA721&fileType=pdf; ComponentLink3Description: Package Specification; ComponentLink3URL: http://www.ti.com/litv/pdf/msoi002j
footprint TI-D8_N (SOIC, 8-Leads, Body 5x4mm, Pitch 1.27mm, IPC Medium Density)
footprint TI-D8_L (SOIC, 8-Leads, Body 5x4mm, Pitch 1.27mm, IPC High Density)
footprint TI-D8_M (SOIC, 8-Leads, Body 5x4mm, Pitch 1.27mm, IPC Low Density)
pins: 1 SHUTDOWN (in) "SHUTDOWN places the entire device in shutdown mode when held high.", 2 BYPASS "BYPASS is the tap to the voltage divider for internal mid-supply bias. This terminal should be connected to a 0.1-uF to 2.2-uF capacitor when used as an audio amplifier.", 3 IN+ (in) "IN+ is the noninverting input. IN+ is typically tied to the BYPASS terminal.", 4 IN- (in) "IN- is the inverting input. IN- is typically used as the audio input terminal.", 5 VO+ (out) "VO+ is the positive BTL output.", 6 VDD (power) "VDD is the supply voltage terminal.", 7 GND (power) "GND is the ground connection.", 8 VO- (out) "VO- is the negative BTL output."

## TPA721DG4
designator U?
700-mW Mono, Class-AB Audio Amplifier with Active High Shutdown, -40 to 85 degC, 8-pin SOIC (D8), Green (RoHS & no Sb/Br); Manufacturer: Texas Instruments; PartNumber: TPA721DG4; Output Power(W): 0.25; PSRR(dB): 85; SubFamily: Dynamic Speaker; Supply Max(Max)(Volt): 5.5; Supply Min(Min)(Volt): 2.5; DatasheetVersion: SLOS231E; PackageVersion: 4040047-3/M, 06/2011; PackageReference: D8; PackageDescription: 8-Pin Plastic Small Outline, Body 4.9 x 3.9 mm, Pitch 1.27 mm; Supplier 1: Digi-Key; Supplier Part Number 1: TPA721DG4-ND; Supplier 2: Mouser; Supplier Part Number 2: 595-TPA721DG4; Eco-Plan: Green (RoHS & no Sb/Br); Speaker Amp Type: Class-AB; Speaker Channels: Mono; Mounting Technology: Surface Mount; Code_JEDEC: MS-012; ComponentLink1Description: Manufacturer URL; ComponentLink1URL: http://www.ti.com/; ComponentLink2Description: Datasheet; ComponentLink2URL: http://www.ti.com/general/docs/lit/getliterature.tsp?genericPartNumber=TPA721&fileType=pdf; ComponentLink3Description: Package Specification; ComponentLink3URL: http://www.ti.com/litv/pdf/msoi002j
footprint TI-D8_N (SOIC, 8-Leads, Body 5x4mm, Pitch 1.27mm, IPC Medium Density)
footprint TI-D8_L (SOIC, 8-Leads, Body 5x4mm, Pitch 1.27mm, IPC High Density)
footprint TI-D8_M (SOIC, 8-Leads, Body 5x4mm, Pitch 1.27mm, IPC Low Density)
pins: 1 SHUTDOWN (in) "SHUTDOWN places the entire device in shutdown mode when held high.", 2 BYPASS "BYPASS is the tap to the voltage divider for internal mid-supply bias. This terminal should be connected to a 0.1-uF to 2.2-uF capacitor when used as an audio amplifier.", 3 IN+ (in) "IN+ is the noninverting input. IN+ is typically tied to the BYPASS terminal.", 4 IN- (in) "IN- is the inverting input. IN- is typically used as the audio input terminal.", 5 VO+ (out) "VO+ is the positive BTL output.", 6 VDD (power) "VDD is the supply voltage terminal.", 7 GND (power) "GND is the ground connection.", 8 VO- (out) "VO- is the negative BTL output."

## TPA721DGN
designator U?
700-mW Mono, Class-AB Audio Amplifier with Active High Shutdown, -40 to 85 degC, 8-pin SOP (DGN8), Green (RoHS & no Sb/Br); Manufacturer: Texas Instruments; PartNumber: TPA721DGN; Output Power(W): 0.25; PSRR(dB): 85; SubFamily: Dynamic Speaker; Supply Max(Max)(Volt): 5.5; Supply Min(Min)(Volt): 2.5; DatasheetVersion: SLOS231E; PackageVersion: 4073271/F, 05/2011; PackageReference: DGN8-1760X1425TP; PackageDescription: 8-Pin Plastic Small Outline, Body 3 x 3 mm, Pitch 0.65 mm; Supplier 1: Digi-Key; Supplier Part Number 1: 296-34564-5-ND; Supplier 2: Mouser; Supplier Part Number 2: 595-TPA721DGN; Eco-Plan: Green (RoHS & no Sb/Br); Speaker Amp Type: Class-AB; Speaker Channels: Mono; Mounting Technology: Surface Mount; Code_JEDEC: MO-187; ComponentLink1Description: Manufacturer URL; ComponentLink1URL: http://www.ti.com/; ComponentLink2Description: Datasheet; ComponentLink2URL: http://www.ti.com/general/docs/lit/getliterature.tsp?genericPartNumber=TPA721&fileType=pdf; ComponentLink3Description: Package Specification; ComponentLink3URL: http://www.ti.com/litv/pdf/mpds046e
footprint TI-DGN8-1760X1425TP_N (SOP, 8-Leads, Body 3.1x3.1mm, Pitch 0.65mm, Thermal Pad 1.89x1.57mm, IPC Medium Density)
footprint TI-DGN8-1760X1425TP_L (SOP, 8-Leads, Body 3.1x3.1mm, Pitch 0.65mm, Thermal Pad 1.89x1.57mm, IPC High Density)
footprint TI-DGN8-1760X1425TP_M (SOP, 8-Leads, Body 3.1x3.1mm, Pitch 0.65mm, Thermal Pad 1.89x1.57mm, IPC Low Density)
pins: 1 SHUTDOWN (in) "SHUTDOWN places the entire device in shutdown mode when held high.", 2 BYPASS "BYPASS is the tap to the voltage divider for internal mid-supply bias.", 3 IN+ (in) "IN+ is the noninverting input. IN+ is typically tied to the BYPASS terminal.", 4 IN- (in) "IN- is the inverting input. IN- is typically used as the audio input terminal.", 5 VO+ (out) "VO+ is the positive BTL output.", 6 VDD (power) "VDD is the supply voltage terminal.", 7 GND (power) "GND is the ground connection.", 8 VO- (out) "VO- is the negative BTL output.", 9 EP

## TPA721DGNG4
designator U?
700-mW Mono, Class-AB Audio Amplifier with Active High Shutdown, -40 to 85 degC, 8-pin SOP (DGN8), Green (RoHS & no Sb/Br); Manufacturer: Texas Instruments; PartNumber: TPA721DGNG4; Output Power(W): 0.25; PSRR(dB): 85; SubFamily: Dynamic Speaker; Supply Max(Max)(Volt): 5.5; Supply Min(Min)(Volt): 2.5; DatasheetVersion: SLOS231E; PackageVersion: 4073271/F, 05/2011; PackageReference: DGN8-1760X1425TP; PackageDescription: 8-Pin Plastic Small Outline, Body 3 x 3 mm, Pitch 0.65 mm; Supplier 1: Digi-Key; Supplier Part Number 1: TPA721DGNG4-ND; Supplier 2: Mouser; Supplier Part Number 2: 595-TPA721DGNG4; Eco-Plan: Green (RoHS & no Sb/Br); Speaker Amp Type: Class-AB; Speaker Channels: Mono; Mounting Technology: Surface Mount; Code_JEDEC: MO-187; ComponentLink1Description: Manufacturer URL; ComponentLink1URL: http://www.ti.com/; ComponentLink2Description: Datasheet; ComponentLink2URL: http://www.ti.com/general/docs/lit/getliterature.tsp?genericPartNumber=TPA721&fileType=pdf; ComponentLink3Description: Package Specification; ComponentLink3URL: http://www.ti.com/litv/pdf/mpds046e
footprint TI-DGN8-1760X1425TP_N (SOP, 8-Leads, Body 3.1x3.1mm, Pitch 0.65mm, Thermal Pad 1.89x1.57mm, IPC Medium Density)
footprint TI-DGN8-1760X1425TP_L (SOP, 8-Leads, Body 3.1x3.1mm, Pitch 0.65mm, Thermal Pad 1.89x1.57mm, IPC High Density)
footprint TI-DGN8-1760X1425TP_M (SOP, 8-Leads, Body 3.1x3.1mm, Pitch 0.65mm, Thermal Pad 1.89x1.57mm, IPC Low Density)
pins: 1 SHUTDOWN (in) "SHUTDOWN places the entire device in shutdown mode when held high.", 2 BYPASS "BYPASS is the tap to the voltage divider for internal mid-supply bias.", 3 IN+ (in) "IN+ is the noninverting input. IN+ is typically tied to the BYPASS terminal.", 4 IN- (in) "IN- is the inverting input. IN- is typically used as the audio input terminal.", 5 VO+ (out) "VO+ is the positive BTL output.", 6 VDD (power) "VDD is the supply voltage terminal.", 7 GND (power) "GND is the ground connection.", 8 VO- (out) "VO- is the negative BTL output.", 9 EP

## TPA721DGNR
designator U?
700-mW Mono, Class-AB Audio Amplifier with Active High Shutdown, -40 to 85 degC, 8-pin SOP (DGN8), Green (RoHS & no Sb/Br); Manufacturer: Texas Instruments; PartNumber: TPA721DGNR; Output Power(W): 0.25; PSRR(dB): 85; SubFamily: Dynamic Speaker; Supply Max(Max)(Volt): 5.5; Supply Min(Min)(Volt): 2.5; DatasheetVersion: SLOS231E; PackageVersion: 4073271/F, 05/2011; PackageReference: DGN8-1760X1425TP; PackageDescription: 8-Pin Plastic Small Outline, Body 3 x 3 mm, Pitch 0.65 mm; Supplier 1: Digi-Key; Supplier Part Number 1: 296-7024-2-ND; Supplier 2: Digi-Key; Supplier Part Number 2: 296-7024-1-ND; Supplier 3: Digi-Key; Supplier Part Number 3: 296-7024-6-ND; Supplier 4: Mouser; Supplier Part Number 4: 595-TPA721DGNR; Eco-Plan: Green (RoHS & no Sb/Br); Speaker Amp Type: Class-AB; Speaker Channels: Mono; Mounting Technology: Surface Mount; Code_JEDEC: MO-187; ComponentLink1Description: Manufacturer URL; ComponentLink1URL: http://www.ti.com/; ComponentLink2Description: Datasheet; ComponentLink2URL: http://www.ti.com/general/docs/lit/getliterature.tsp?genericPartNumber=TPA721&fileType=pdf; ComponentLink3Description: Package Specification; ComponentLink3URL: http://www.ti.com/litv/pdf/mpds046e
footprint TI-DGN8-1760X1425TP_N (SOP, 8-Leads, Body 3.1x3.1mm, Pitch 0.65mm, Thermal Pad 1.89x1.57mm, IPC Medium Density)
footprint TI-DGN8-1760X1425TP_L (SOP, 8-Leads, Body 3.1x3.1mm, Pitch 0.65mm, Thermal Pad 1.89x1.57mm, IPC High Density)
footprint TI-DGN8-1760X1425TP_M (SOP, 8-Leads, Body 3.1x3.1mm, Pitch 0.65mm, Thermal Pad 1.89x1.57mm, IPC Low Density)
pins: 1 SHUTDOWN (in) "SHUTDOWN places the entire device in shutdown mode when held high.", 2 BYPASS "BYPASS is the tap to the voltage divider for internal mid-supply bias.", 3 IN+ (in) "IN+ is the noninverting input. IN+ is typically tied to the BYPASS terminal.", 4 IN- (in) "IN- is the inverting input. IN- is typically used as the audio input terminal.", 5 VO+ (out) "VO+ is the positive BTL output.", 6 VDD (power) "VDD is the supply voltage terminal.", 7 GND (power) "GND is the ground connection.", 8 VO- (out) "VO- is the negative BTL output.", 9 EP

## TPA721DGNRG4
designator U?
700-mW Mono, Class-AB Audio Amplifier with Active High Shutdown, -40 to 85 degC, 8-pin SOP (DGN8), Green (RoHS & no Sb/Br); Manufacturer: Texas Instruments; PartNumber: TPA721DGNRG4; Output Power(W): 0.25; PSRR(dB): 85; SubFamily: Dynamic Speaker; Supply Max(Max)(Volt): 5.5; Supply Min(Min)(Volt): 2.5; DatasheetVersion: SLOS231E; PackageVersion: 4073271/F, 05/2011; PackageReference: DGN8-1760X1425TP; PackageDescription: 8-Pin Plastic Small Outline, Body 3 x 3 mm, Pitch 0.65 mm; Supplier 1: Digi-Key; Supplier Part Number 1: TPA721DGNRG4-ND; Supplier 2: Mouser; Supplier Part Number 2: 595-TPA721DGNRG4; Eco-Plan: Green (RoHS & no Sb/Br); Speaker Amp Type: Class-AB; Speaker Channels: Mono; Mounting Technology: Surface Mount; Code_JEDEC: MO-187; ComponentLink1Description: Manufacturer URL; ComponentLink1URL: http://www.ti.com/; ComponentLink2Description: Datasheet; ComponentLink2URL: http://www.ti.com/general/docs/lit/getliterature.tsp?genericPartNumber=TPA721&fileType=pdf; ComponentLink3Description: Package Specification; ComponentLink3URL: http://www.ti.com/litv/pdf/mpds046e
footprint TI-DGN8-1760X1425TP_N (SOP, 8-Leads, Body 3.1x3.1mm, Pitch 0.65mm, Thermal Pad 1.89x1.57mm, IPC Medium Density)
footprint TI-DGN8-1760X1425TP_L (SOP, 8-Leads, Body 3.1x3.1mm, Pitch 0.65mm, Thermal Pad 1.89x1.57mm, IPC High Density)
footprint TI-DGN8-1760X1425TP_M (SOP, 8-Leads, Body 3.1x3.1mm, Pitch 0.65mm, Thermal Pad 1.89x1.57mm, IPC Low Density)
pins: 1 SHUTDOWN (in) "SHUTDOWN places the entire device in shutdown mode when held high.", 2 BYPASS "BYPASS is the tap to the voltage divider for internal mid-supply bias.", 3 IN+ (in) "IN+ is the noninverting input. IN+ is typically tied to the BYPASS terminal.", 4 IN- (in) "IN- is the inverting input. IN- is typically used as the audio input terminal.", 5 VO+ (out) "VO+ is the positive BTL output.", 6 VDD (power) "VDD is the supply voltage terminal.", 7 GND (power) "GND is the ground connection.", 8 VO- (out) "VO- is the negative BTL output.", 9 EP

## TPA721DR
designator U?
700-mW Mono, Class-AB Audio Amplifier with Active High Shutdown, -40 to 85 degC, 8-pin SOIC (D8), Green (RoHS & no Sb/Br); Manufacturer: Texas Instruments; PartNumber: TPA721DR; Output Power(W): 0.25; PSRR(dB): 85; SubFamily: Dynamic Speaker; Supply Max(Max)(Volt): 5.5; Supply Min(Min)(Volt): 2.5; DatasheetVersion: SLOS231E; PackageVersion: 4040047-3/M, 06/2011; PackageReference: D8; PackageDescription: 8-Pin Plastic Small Outline, Body 4.9 x 3.9 mm, Pitch 1.27 mm; Supplier 1: Digi-Key; Supplier Part Number 1: 296-1951-2-ND; Supplier 2: Digi-Key; Supplier Part Number 2: 296-1951-1-ND; Supplier 3: Digi-Key; Supplier Part Number 3: 296-1951-6-ND; Supplier 4: Newark; Supplier Part Number 4: 76C9866; Supplier 5: Mouser; Supplier Part Number 5: 595-TPA721DR; Eco-Plan: Green (RoHS & no Sb/Br); Speaker Amp Type: Class-AB; Speaker Channels: Mono; Mounting Technology: Surface Mount; Code_JEDEC: MS-012; ComponentLink1Description: Manufacturer URL; ComponentLink1URL: http://www.ti.com/; ComponentLink2Description: Datasheet; ComponentLink2URL: http://www.ti.com/general/docs/lit/getliterature.tsp?genericPartNumber=TPA721&fileType=pdf; ComponentLink3Description: Package Specification; ComponentLink3URL: http://www.ti.com/litv/pdf/msoi002j
footprint TI-D8_N (SOIC, 8-Leads, Body 5x4mm, Pitch 1.27mm, IPC Medium Density)
footprint TI-D8_L (SOIC, 8-Leads, Body 5x4mm, Pitch 1.27mm, IPC High Density)
footprint TI-D8_M (SOIC, 8-Leads, Body 5x4mm, Pitch 1.27mm, IPC Low Density)
pins: 1 SHUTDOWN (in) "SHUTDOWN places the entire device in shutdown mode when held high.", 2 BYPASS "BYPASS is the tap to the voltage divider for internal mid-supply bias. This terminal should be connected to a 0.1-uF to 2.2-uF capacitor when used as an audio amplifier.", 3 IN+ (in) "IN+ is the noninverting input. IN+ is typically tied to the BYPASS terminal.", 4 IN- (in) "IN- is the inverting input. IN- is typically used as the audio input terminal.", 5 VO+ (out) "VO+ is the positive BTL output.", 6 VDD (power) "VDD is the supply voltage terminal.", 7 GND (power) "GND is the ground connection.", 8 VO- (out) "VO- is the negative BTL output."

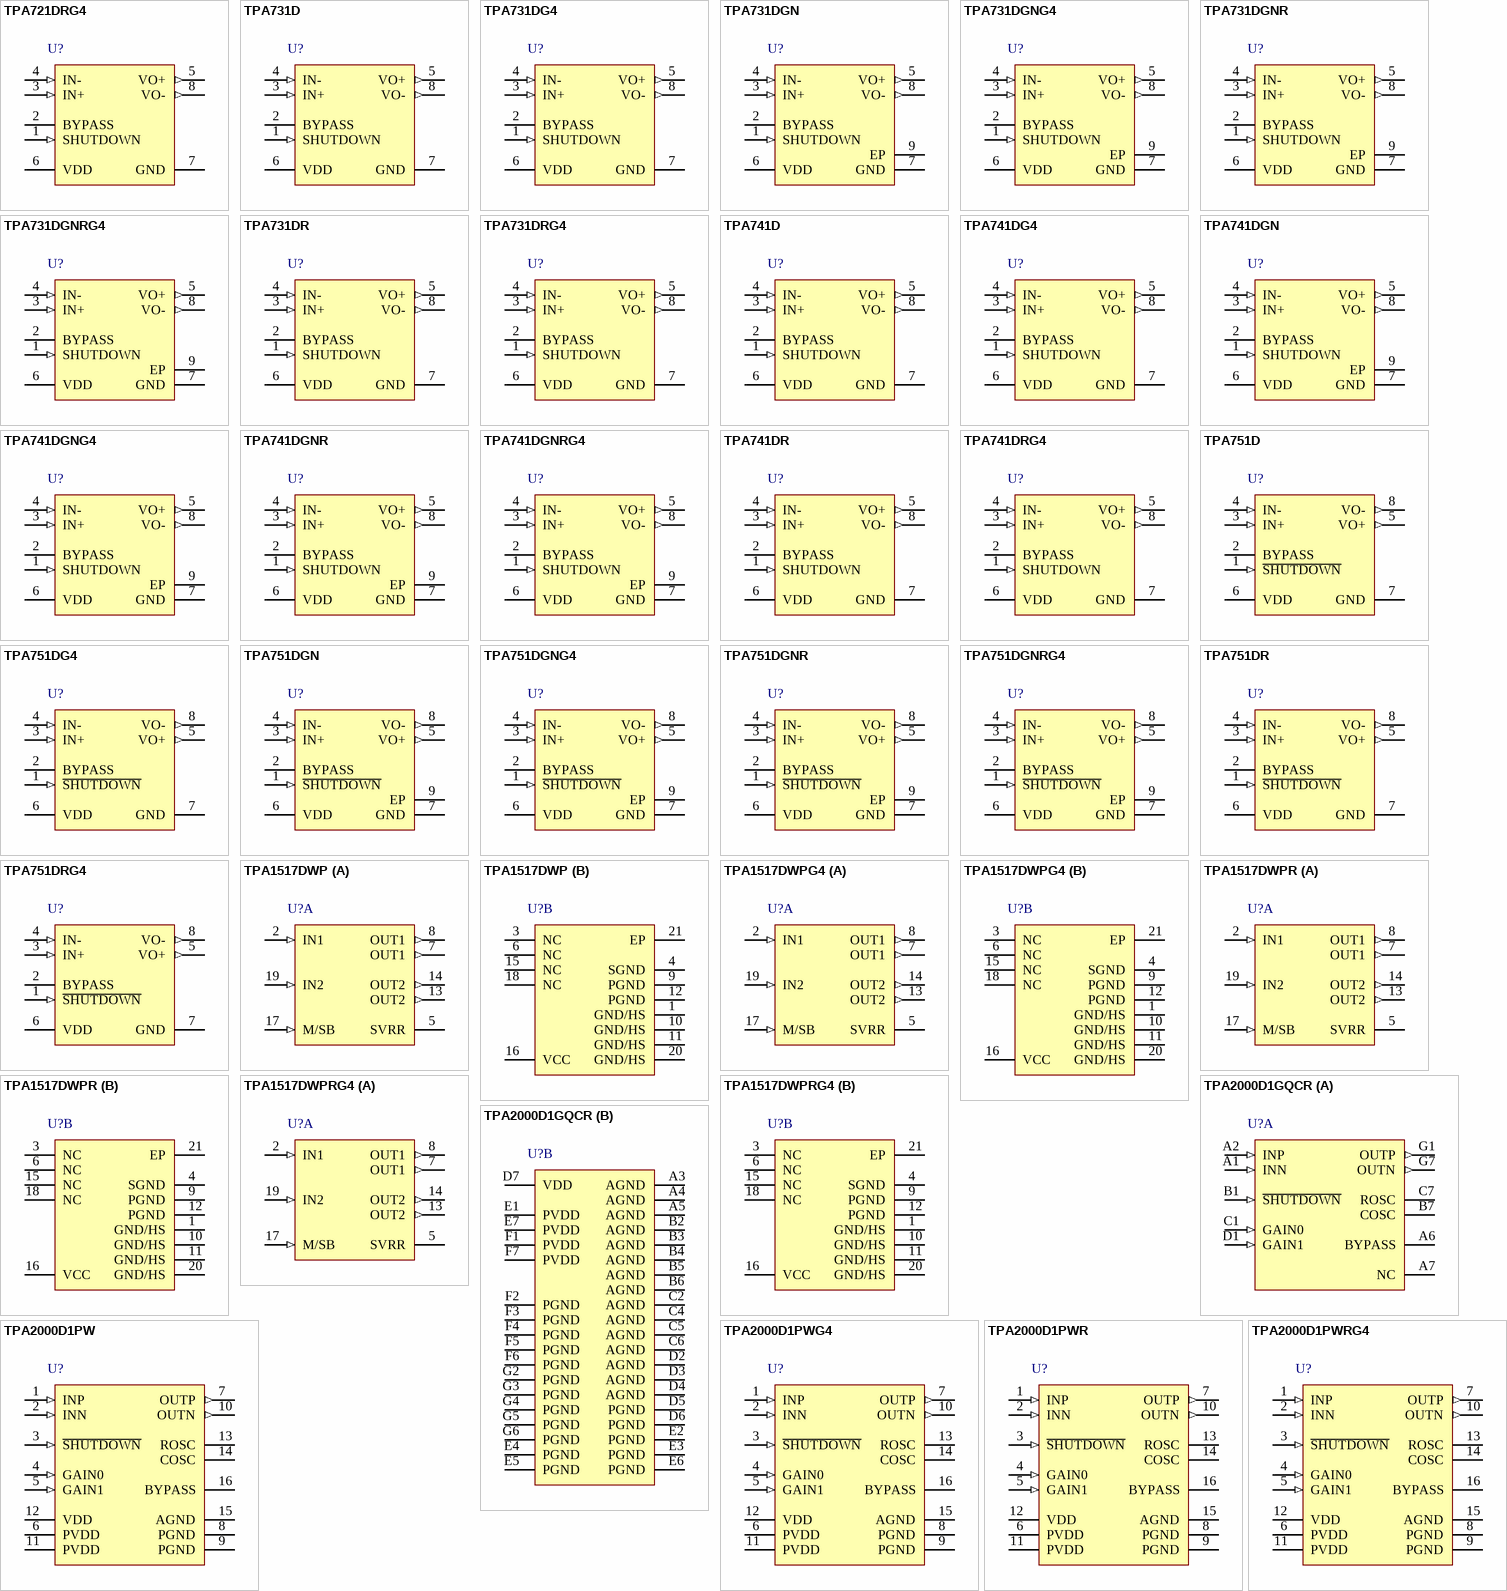
[diagram p26: symbols TPA721DRG4 to TPA2000D1PWRG4]

## TPA721DRG4
designator U?
700-mW Mono, Class-AB Audio Amplifier with Active High Shutdown, -40 to 85 degC, 8-pin SOIC (D8), Green (RoHS & no Sb/Br); Manufacturer: Texas Instruments; PartNumber: TPA721DRG4; Output Power(W): 0.25; PSRR(dB): 85; SubFamily: Dynamic Speaker; Supply Max(Max)(Volt): 5.5; Supply Min(Min)(Volt): 2.5; DatasheetVersion: SLOS231E; PackageVersion: 4040047-3/M, 06/2011; PackageReference: D8; PackageDescription: 8-Pin Plastic Small Outline, Body 4.9 x 3.9 mm, Pitch 1.27 mm; Supplier 1: Digi-Key; Supplier Part Number 1: TPA721DRG4-ND; Supplier 2: Mouser; Supplier Part Number 2: 595-TPA721DRG4; Eco-Plan: Green (RoHS & no Sb/Br); Speaker Amp Type: Class-AB; Speaker Channels: Mono; Mounting Technology: Surface Mount; Code_JEDEC: MS-012; ComponentLink1Description: Manufacturer URL; ComponentLink1URL: http://www.ti.com/; ComponentLink2Description: Datasheet; ComponentLink2URL: http://www.ti.com/general/docs/lit/getliterature.tsp?genericPartNumber=TPA721&fileType=pdf; ComponentLink3Description: Package Specification; ComponentLink3URL: http://www.ti.com/litv/pdf/msoi002j
footprint TI-D8_N (SOIC, 8-Leads, Body 5x4mm, Pitch 1.27mm, IPC Medium Density)
footprint TI-D8_L (SOIC, 8-Leads, Body 5x4mm, Pitch 1.27mm, IPC High Density)
footprint TI-D8_M (SOIC, 8-Leads, Body 5x4mm, Pitch 1.27mm, IPC Low Density)
pins: 1 SHUTDOWN (in) "SHUTDOWN places the entire device in shutdown mode when held high.", 2 BYPASS "BYPASS is the tap to the voltage divider for internal mid-supply bias. This terminal should be connected to a 0.1-uF to 2.2-uF capacitor when used as an audio amplifier.", 3 IN+ (in) "IN+ is the noninverting input. IN+ is typically tied to the BYPASS terminal.", 4 IN- (in) "IN- is the inverting input. IN- is typically used as the audio input terminal.", 5 VO+ (out) "VO+ is the positive BTL output.", 6 VDD (power) "VDD is the supply voltage terminal.", 7 GND (power) "GND is the ground connection.", 8 VO- (out) "VO- is the negative BTL output."

## TPA731D
designator U?
700-mW Mono, Differential Input, Class-AB Audio Amplifier with Active High Shutdown, -40 to 85 degC, 8-pin SOIC (D8), Green (RoHS & no Sb/Br); Manufacturer: Texas Instruments; PartNumber: TPA731D; Output Power(W): 0.25; PSRR(dB): 85; SubFamily: Dynamic Speaker; Supply Max(Max)(Volt): 5.5; Supply Min(Min)(Volt): 2.5; DatasheetVersion: SLOS315B; PackageVersion: 4040047-3/M, 06/2011; PackageReference: D8; PackageDescription: 8-Pin Plastic Small Outline, Body 4.9 x 3.9 mm, Pitch 1.27 mm; Supplier 1: Digi-Key; Supplier Part Number 1: 296-7025-5-ND; Supplier 2: Mouser; Supplier Part Number 2: 595-TPA731D; Eco-Plan: Green (RoHS & no Sb/Br); Speaker Amp Type: Class-AB; Speaker Channels: Mono; Mounting Technology: Surface Mount; Code_JEDEC: MS-012; ComponentLink1Description: Manufacturer URL; ComponentLink1URL: http://www.ti.com/; ComponentLink2Description: Datasheet; ComponentLink2URL: http://www.ti.com/general/docs/lit/getliterature.tsp?genericPartNumber=TPA731&fileType=pdf; ComponentLink3Description: Package Specification; ComponentLink3URL: http://www.ti.com/litv/pdf/msoi002j
footprint TI-D8_N (SOIC, 8-Leads, Body 5x4mm, Pitch 1.27mm, IPC Medium Density)
footprint TI-D8_L (SOIC, 8-Leads, Body 5x4mm, Pitch 1.27mm, IPC High Density)
footprint TI-D8_M (SOIC, 8-Leads, Body 5x4mm, Pitch 1.27mm, IPC Low Density)
pins: 1 SHUTDOWN (in) "SHUTDOWN places the entire device in shutdown mode when held high.", 2 BYPASS "BYPASS is the tap to the voltage divider for internal mid-supply bias. This terminal should be connected to a 0.1-uF to 2.2-uF capacitor when used as an audio amplifier.", 3 IN+ (in) "IN+ is the noninverting input. IN+ is typically tied to the BYPASS terminal.", 4 IN- (in) "IN- is the inverting input. IN- is typically used as the audio input terminal.", 5 VO+ (out) "VO+ is the positive BTL output.", 6 VDD (power) "VDD is the supply voltage terminal.", 7 GND (power) "GND is the ground connection.", 8 VO- (out) "VO- is the negative BTL output."